# EAGLE library part R1LV1616 (library ACB)
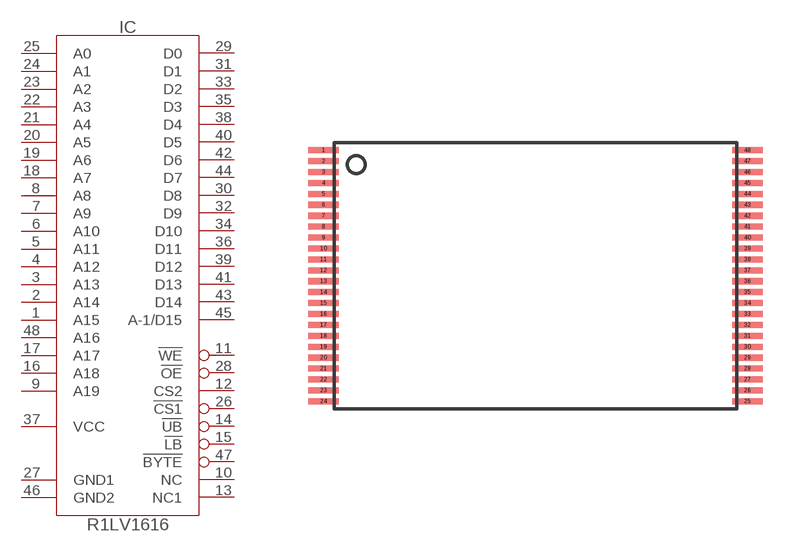
[diagram p7: symbol with the pads of 48-TSOP-I; footprint 48-TSOP-I]

Designator prefix IC

## R1LV1616HSA  [48-TSOP-I]
1  A15  in
2  A14  in
3  A13  in
4  A12  in
5  A11  in
6  A10  in
7  A9  in
8  A8  in
9  A19  in
10  NC  nc
11  !WE  in
12  CS2  in
13  NC1  nc
14  !UB  in
15  !LB  in
16  A18  in
17  A17  in
18  A7  in
19  A6  in
20  A5  in
21  A4  in
22  A3  in
23  A2  in
24  A1  in
25  A0  in
26  !CS1  in
27  GND1
28  !OE  in
29  D0  hiz
30  D8  hiz
31  D1  hiz
32  D9  hiz
33  D2  hiz
34  D10  hiz
35  D3  hiz
36  D11  hiz
37  VCC  in
38  D4  hiz
39  D12  hiz
40  D5  hiz
41  D13  hiz
42  D6  hiz
43  D14  hiz
44  D7  hiz
45  A-1/D15  hiz
46  GND2
47  !BYTE  in
48  A16  in

## Footprint 48-TSOP-I (pad centres in mm)
smd 1.4 x 0.28: 1 -9.7,5.75; 2 -9.7,5.25; 3 -9.7,4.75; 4 -9.7,4.25; 5 -9.7,3.75; 6 -9.7,3.25; 7 -9.7,2.75; 8 -9.7,2.25; 9 -9.7,1.75; 10 -9.7,1.25; 11 -9.7,0.75; 12 -9.7,0.25; 13 -9.7,-0.25; 14 -9.7,-0.75; 15 -9.7,-1.25; 16 -9.7,-1.75; 17 -9.7,-2.25; 18 -9.7,-2.75; 19 -9.7,-3.25; 20 -9.7,-3.75; 21 -9.7,-4.25; 22 -9.7,-4.75; 23 -9.7,-5.25; 24 -9.7,-5.75; 25 9.7,-5.75; 26 9.7,-5.25; 27 9.7,-4.75; 28 9.7,-4.25; 29 9.7,-3.75; 30 9.7,-3.25; 31 9.7,-2.75; 32 9.7,-2.25; 33 9.7,-1.75; 34 9.7,-1.25; 35 9.7,-0.75; 36 9.7,-0.25; 37 9.7,0.25; 38 9.7,0.75; 39 9.7,1.25; 40 9.7,1.75; 41 9.7,2.25; 42 9.7,2.75; 43 9.7,3.25; 44 9.7,3.75; 45 9.7,4.25; 46 9.7,4.75; 47 9.7,5.25; 48 9.7,5.75